# Altium footprint library passive.PcbLib: 25 footprints (part 2 of 2)
Each footprint in its own frame and in the unit in brackets; x right, y up, seen from the top. Pads: shape width x height; smd on the part's side, far side on the other; paste and mask are expansions set on the pad; w line width, h text height; cw(c..) or ccw(c..) is an arc to the next point about the centre after c.
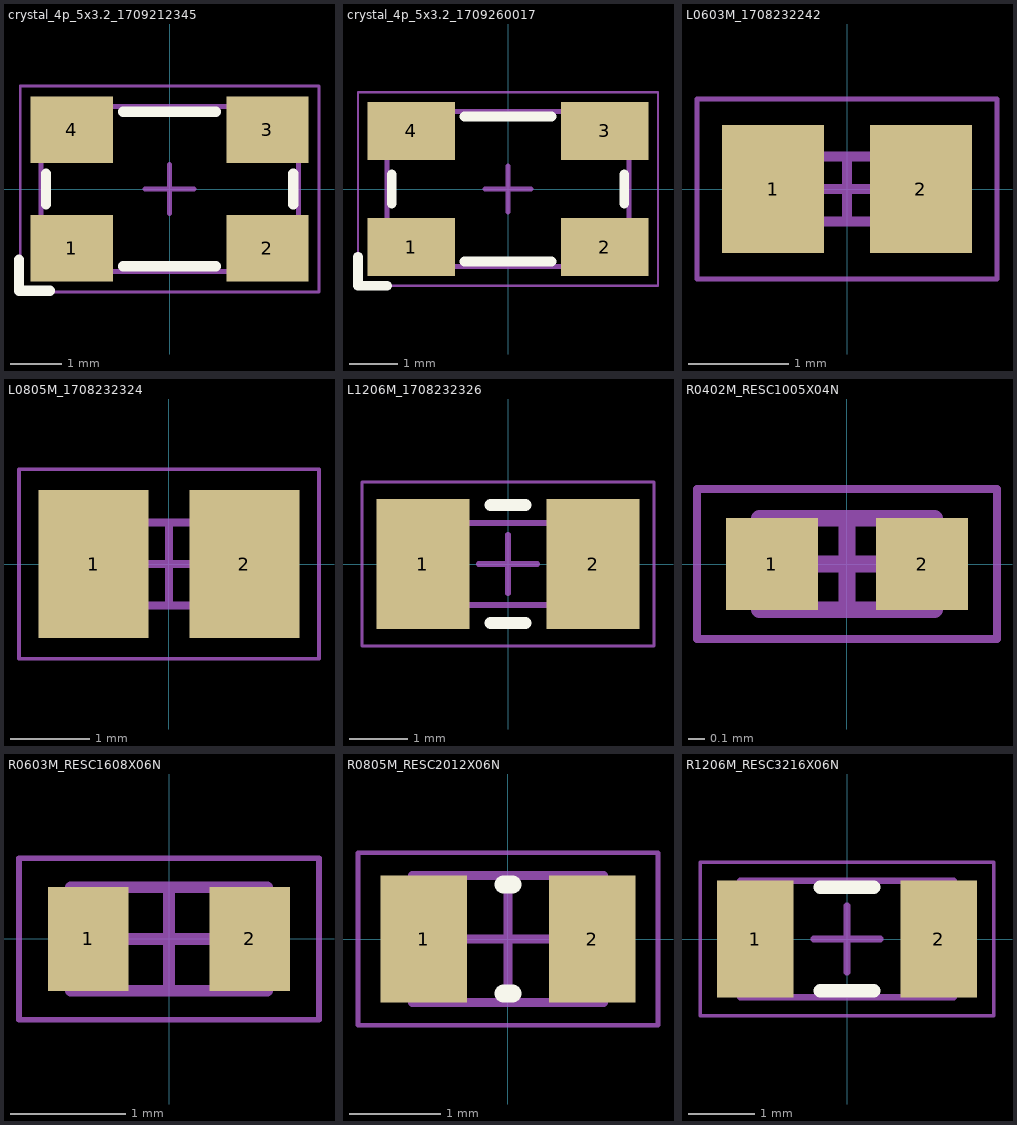
[diagram p1: the footprints below, top view; thin cyan lines are the x and y axes]

## crystal_4p_5x3.2_1709212345 [mm] "Crystal 4pin SMD, Body 5x3.2mm"
height 1
pads (4):
  rect 1.6x1.3 smd: 1(-1.9,-1.15) 2(1.9,-1.15) 3(1.9,1.15) 4(-1.9,1.15)
Top Overlay:
  lines w0.2: -2.925,-1.375 -2.925,-1.975 -2.325,-1.975 ; -2.4,-0.3 -2.4,0.3 ; -0.9,-1.5 0.9,-1.5 ; -0.9,1.5 0.9,1.5 ; 2.4,-0.3 2.4,0.3
Assembly Outline:
  lines w0.1: -2.5,-1.6 -2.5,1.6 2.5,1.6 2.5,-1.6 -2.5,-1.6
Assembly Refdes:
  text ".Designator" at 0,0 h0.5
Courtyard Outline:
  lines w0.05: -2.9,-2 -2.9,2 2.9,2 2.9,-2 -2.9,-2
  lines w0.1: -0.475,0 0.475,0 ; 0,-0.475 0,0.475
3D body "User Library-CRYSTALSMD5X32.step": height 1, standoff 0, extent -2.5,-1.6 2.5,1.6

## crystal_4p_5x3.2_1709260017 [mm] "Crystal 4pin SMD, Body 5x3.2mm"
height 1
pads (4):
  rect 1.8x1.2 smd: 1(-2,-1.2) 2(2,-1.2) 3(2,1.2) 4(-2,1.2)
Top Overlay:
  lines w0.2: -3.1,-1.4 -3.1,-2 -2.5,-2 ; -2.4,-0.3 -2.4,0.3 ; -0.9,-1.5 0.9,-1.5 ; -0.9,1.5 0.9,1.5 ; 2.4,-0.3 2.4,0.3
Assembly Outline:
  lines w0.1: -2.5,-1.6 -2.5,1.6 2.5,1.6 2.5,-1.6 -2.5,-1.6
Assembly Refdes:
  text ".Designator" at 0,0 h0.5
Courtyard Outline:
  lines w0.05: -3.1,-2 -3.1,2 3.1,2 3.1,-2 -3.1,-2
  lines w0.1: -0.475,0 0.475,0 ; 0,-0.475 0,0.475
3D body "User Library-CRYSTALSMD5X32.step": height 1, standoff 0, extent -2.5,-1.6 2.5,1.6

## L0603M_1708232242 [mm] "Chip Inductor, 2-Leads, Body 1,60x0,80mm, IPC Medium Density"
height 0.8
pads (2):
  rect 1.02x1.28 smd: 1(-0.74,0) 2(0.74,0)
Assembly Outline:
  lines w0.1: -0.725,-0.325 0.725,-0.325 0.725,0.325 -0.725,0.325 -0.725,-0.325
Courtyard Outline:
  lines w0.05: -1.5,-0.9 1.5,-0.9 1.5,0.9 -1.5,0.9 -1.5,-0.9
  lines w0.1: -0.325,0 0.325,0 ; 0,-0.325 0,0.325
3D body "INDC1608X08N.step": height 0.8, standoff 0, extent -0.725,-0.325 0.725,0.325

## L0805M_1708232324 [mm] "Chip Inductor, 2-Leads, Body 2,00x1,25mm, IPC Medium Density"
height 0.95
pads (2):
  rect 1.39x1.87 smd: 1(-0.955,0) 2(0.955,0)
Assembly Outline:
  lines w0.1: -0.9,-0.525 0.9,-0.525 0.9,0.525 -0.9,0.525 -0.9,-0.525
Courtyard Outline:
  lines w0.05: -1.9,-1.2 1.9,-1.2 1.9,1.2 -1.9,1.2 -1.9,-1.2
  lines w0.1: -0.5,0 0.5,0 ; 0,-0.5 0,0.5
3D body "INDC2012X09N.step": height 0.95, standoff 0, extent -0.9,-0.525 0.9,0.525

## L1206M_1708232326 [mm] "Chip Inductor, 2-Leads, Body 3,20x1,60mm, IPC Medium Density"
height 1.3
pads (2):
  rect 1.59x2.22 smd: 1(-1.455,0) 2(1.455,0)
Top Overlay:
  lines w0.2: -0.3,-1.01 0.3,-1.01 ; -0.3,1.01 0.3,1.01
Assembly Outline:
  lines w0.1: -1.5,-0.7 1.5,-0.7 1.5,0.7 -1.5,0.7 -1.5,-0.7
Courtyard Outline:
  lines w0.05: -2.5,-1.4 2.5,-1.4 2.5,1.4 -2.5,1.4 -2.5,-1.4
  lines w0.1: -0.5,0 0.5,0 ; 0,-0.5 0,0.5
3D body "INDC3216X13N.step": height 1.3, standoff 0, extent -1.5,-0.7 1.5,0.7

## R0402M_RESC1005X04N [mm] "Chip Resistor, 2-Leads, Body 1,00x0,50mm, IPC Medium Density"
height 0.37
pads (2):
  rect 0.55x0.55 smd: 1(-0.45,0) 2(0.45,0)
Assembly Outline:
  lines w0.1: -0.525,-0.275 -0.525,0.275 0.525,0.275 0.525,-0.275 -0.525,-0.275
Courtyard Outline:
  lines w0.05: -0.9,-0.45 -0.9,0.45 0.9,0.45 0.9,-0.45 -0.9,-0.45
  lines w0.1: -0.275,0 0.275,0 ; 0,-0.275 0,0.275
3D body "RESC1005X04N.step": height 0.37, standoff 0, extent -0.525,-0.275 0.525,0.275

## R0603M_RESC1608X06N [mm] "Chip Resistor, 2-Leads, Body 1,60x0,80mm, IPC Medium Density"
height 0.55
pads (2):
  rect 0.7x0.9 smd: 1(-0.7,0) 2(0.7,0)
Assembly Outline:
  lines w0.1: -0.85,-0.45 -0.85,0.45 0.85,0.45 0.85,-0.45 -0.85,-0.45
Courtyard Outline:
  lines w0.05: -1.3,-0.7 -1.3,0.7 1.3,0.7 1.3,-0.7 -1.3,-0.7
  lines w0.1: -0.45,0 0.45,0 ; 0,-0.45 0,0.45
3D body "RESC1608X06N.step": height 0.55, standoff 0, extent -0.85,-0.45 0.85,0.45

## R0805M_RESC2012X06N [mm] "Chip Resistor, 2-Leads, Body 2,00x1,25mm, IPC Medium Density"
height 0.55
pads (2):
  rect 0.95x1.4 smd: 1(-0.925,0) 2(0.925,0)
Top Overlay:
  lines w0.2: -0.05,-0.6 0.05,-0.6 ; -0.05,0.6 0.05,0.6
Assembly Outline:
  lines w0.1: -1.05,-0.7 1.05,-0.7 1.05,0.7 -1.05,0.7 -1.05,-0.7
Courtyard Outline:
  lines w0.05: -1.65,-0.95 1.65,-0.95 1.65,0.95 -1.65,0.95 -1.65,-0.95
  lines w0.1: -0.5,0 0.5,0 ; 0,-0.5 0,0.5
3D body "RESC2012X06N.step": height 0.55, standoff 0, extent -1.05,-0.7 1.05,0.7

## R1206M_RESC3216X06N [mm] "Chip Resistor, 2-Leads, Body 3,15x1,60mm, IPC Medium Density"
height 0.56
pads (2):
  rect 1.15x1.75 smd: 1(-1.375,0) 2(1.375,0)
Top Overlay:
  lines w0.2: -0.4,-0.775 0.4,-0.775 ; -0.4,0.775 0.4,0.775
Assembly Outline:
  lines w0.1: -1.6,-0.875 1.6,-0.875 1.6,0.875 -1.6,0.875 -1.6,-0.875
Courtyard Outline:
  lines w0.05: -2.2,-1.15 2.2,-1.15 2.2,1.15 -2.2,1.15 -2.2,-1.15
  lines w0.1: -0.5,0 0.5,0 ; 0,-0.5 0,0.5
3D body "RESC3216X06N.step": height 0.56, standoff 0, extent -1.6,-0.875 1.6,0.875